# Altium schematic symbol library TP4057.SchLib: 1 symbol
Pins are listed as number, name and electrical type; pins without a type are passive.

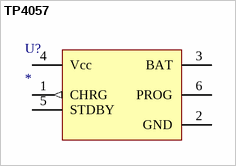
[diagram p0: symbol TP4057]

## TP4057
designator U?
Value: *
pins: 1 CHRG (out), 2 GND (power), 3 BAT (power), 4 Vcc (power), 5 STDBY (power), 6 PROG (power)